# Altium footprint library PLCC-44.PcbLib: 1 footprints
Each footprint in its own frame and in the unit in brackets; x right, y up, seen from the top. Pads: shape width x height; smd on the part's side, far side on the other; paste and mask are expansions set on the pad; w line width, h text height; cw(c..) or ccw(c..) is an arc to the next point about the centre after c.
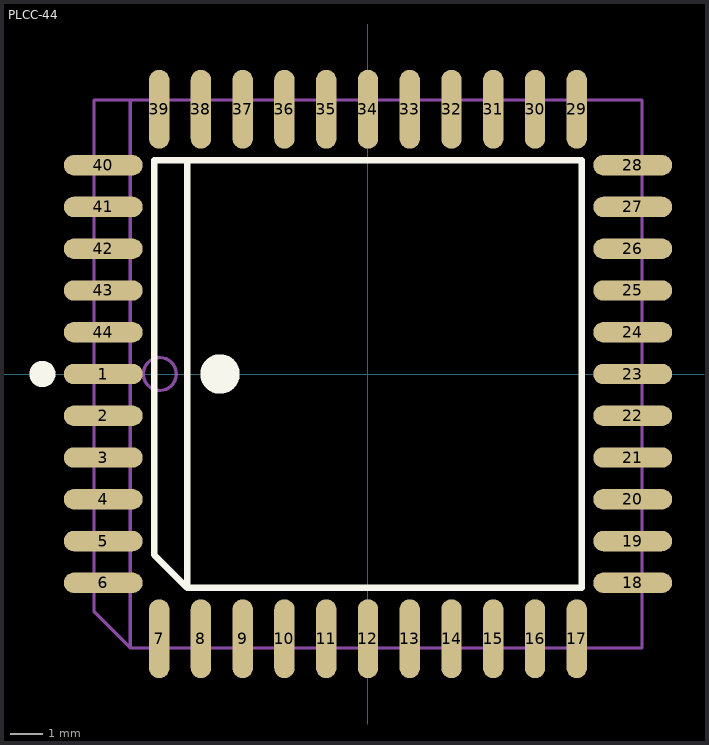
[diagram p0: the footprint, top view; thin cyan lines are the x and y axes]

## PLCC-44 [mm]
pads (44):
  oval 2.4x0.62 smd: 1(-8.05,0) 2(-8.05,-1.27) 3(-8.05,-2.54) 4(-8.05,-3.81) 5(-8.05,-5.08) 6(-8.05,-6.35) 18(8.05,-6.35) 19(8.05,-5.08) 20(8.05,-3.81) 21(8.05,-2.54) 22(8.05,-1.27) 23(8.05,0) 24(8.05,1.27) 25(8.05,2.54) 26(8.05,3.81) 27(8.05,5.08) 28(8.05,6.35) 40(-8.05,6.35) 41(-8.05,5.08) 42(-8.05,3.81) 43(-8.05,2.54) 44(-8.05,1.27)
  oval 0.62x2.4 smd: 7(-6.35,-8.05) 8(-5.08,-8.05) 9(-3.81,-8.05) 10(-2.54,-8.05) 11(-1.27,-8.05) 12(0,-8.05) 13(1.27,-8.05) 14(2.54,-8.05) 15(3.81,-8.05) 16(5.08,-8.05) 17(6.35,-8.05) 29(6.35,8.05) 30(5.08,8.05) 31(3.81,8.05) 32(2.54,8.05) 33(1.27,8.05) 34(0,8.05) 35(-1.27,8.05) 36(-2.54,8.05) 37(-3.81,8.05) 38(-5.08,8.05) 39(-6.35,8.05)
Top Overlay:
  circle w0.4: c-9.9,0 r0.2
  circle w0.6: c-4.5,0 r0.3
  lines w0.2: -5.5,6.5 -5.5,-6.5 ; -5.5,-6.5 -6.5,-5.5 -6.5,6.5 6.5,6.5 6.5,-6.5 -5.5,-6.5
Mechanical 13:
  circle w0.1: c-6.33,0 r0.5
  lines w0.1: -7.23,8.33 -7.23,-8.33 ; -7.23,-8.33 8.33,-8.33 8.33,8.33 -8.33,8.33 -8.33,-7.23 -7.23,-8.33